# Altium schematic symbol library Inductor Iron.SchLib: 1 symbol
Pins are listed as number, name and electrical type; pins without a type are passive.

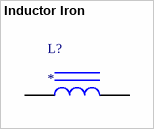
[diagram p0: symbol Inductor Iron]

## Inductor Iron
designator L?
pins: 1, 2